# EAGLE library part TDA7052 (library Radicon)
TDA7052A Mono 1W BTL Amp
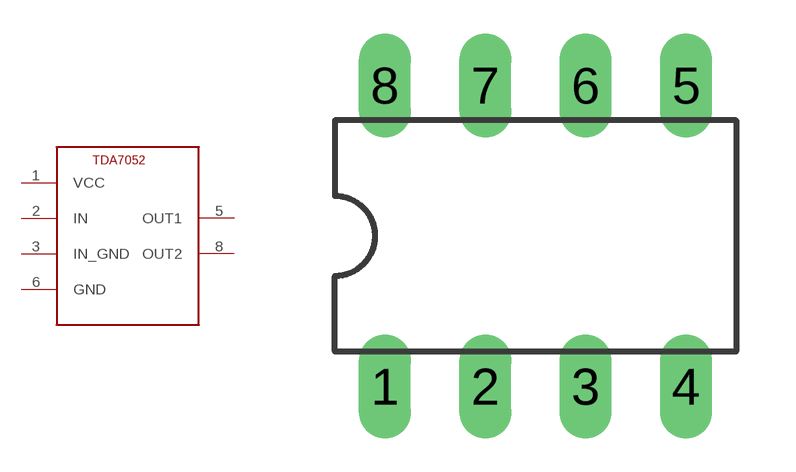
[diagram p8: symbol with the pads of DIL08; footprint DIL08]

Designator prefix -

## TDA7052  [DIL08]
1  VCC
2  IN
3  IN_GND
5  OUT1
6  GND
8  OUT2

## Footprint DIL08 (pad centres in mm)
Dual In Line Package
drill 0.813 long: 1 -3.81,-3.81; 2 -1.27,-3.81; 3 1.27,-3.81; 4 3.81,-3.81; 5 3.81,3.81; 6 1.27,3.81; 7 -1.27,3.81; 8 -3.81,3.81